# Altium schematic symbol library SOLDER_HOLE.SchLib: 1 symbol
Pins are listed as number, name and electrical type; pins without a type are passive.

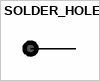
[diagram p0: symbol SOLDER_HOLE]

## SOLDER_HOLE
designator ?  (no BOM)
pins: 1